# EAGLE library part SNESCART_CONN_SPARSE (library snes_div)
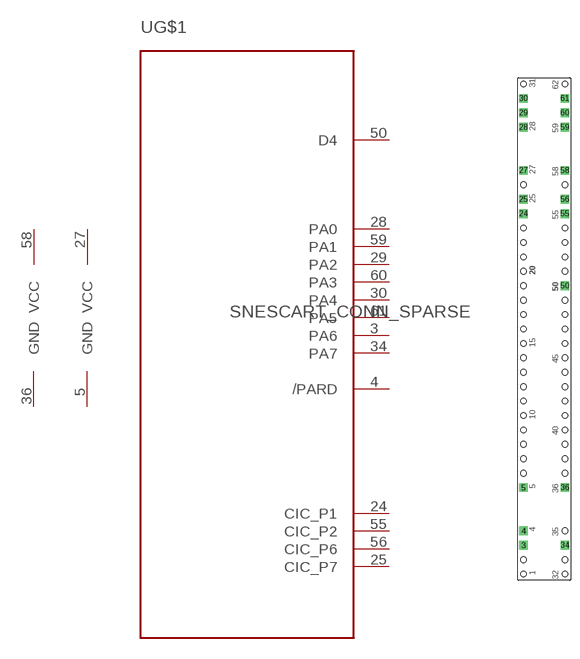
[diagram p10: symbol with the pads of SNESCART_CONN_SPARSE; footprint SNESCART_CONN_SPARSE]

Designator prefix -; gates G$1=SNESCART_CONN_SPARSE G$2=PWR G$3=PWR

## SNESCART_CONN_SPARSE  [SNESCART_CONN_SPARSE]
3  G$1:PA6
4  G$1:/PARD
5  G$2:GND
24  G$1:CIC_P1
25  G$1:CIC_P7
27  G$2:VCC
28  G$1:PA0
29  G$1:PA2
30  G$1:PA4
34  G$1:PA7
36  G$3:GND
50  G$1:D4
55  G$1:CIC_P2
56  G$1:CIC_P6
58  G$3:VCC
59  G$1:PA1
60  G$1:PA3
61  G$1:PA5

## Footprint SNESCART_CONN_SPARSE (pad centres in mm)
drill 1 square: 3 -3.6,-37.5; 4 -3.6,-35; 5 -3.6,-27.5; 24 -3.6,20; 25 -3.6,22.5; 27 -3.6,27.5; 28 -3.6,35; 29 -3.6,37.5; 30 -3.6,40; 34 3.6,-37.5; 36 3.6,-27.5; 50 3.6,7.5; 55 3.6,20; 56 3.6,22.5; 58 3.6,27.5; 59 3.6,35; 60 3.6,37.5; 61 3.6,40
hole 1 at -3.6,-42.5
hole 1 at -3.6,-40
hole 1 at -3.6,-25
hole 1 at -3.6,-22.5
hole 1 at -3.6,-20
hole 1 at -3.6,-17.5
hole 1 at -3.6,-15
hole 1 at -3.6,-12.5
hole 1 at -3.6,-10
hole 1 at -3.6,-7.5
hole 1 at -3.6,-5
hole 1 at -3.6,-2.5
hole 1 at -3.6,0
hole 1 at -3.6,2.5
hole 1 at -3.6,5
hole 1 at -3.6,7.5
hole 1 at -3.6,10
hole 1 at -3.6,12.5
hole 1 at -3.6,15
hole 1 at -3.6,17.5
hole 1 at -3.6,25
hole 1 at -3.6,42.5
hole 1 at 3.6,42.5
hole 1 at 3.6,25
hole 1 at 3.6,17.5
hole 1 at 3.6,15
hole 1 at 3.6,12.5
hole 1 at 3.6,10
hole 1 at 3.6,5
hole 1 at 3.6,2.5
hole 1 at 3.6,0
hole 1 at 3.6,-2.5
hole 1 at 3.6,-5
hole 1 at 3.6,-7.5
hole 1 at 3.6,-10
hole 1 at 3.6,-12.5
hole 1 at 3.6,-15
hole 1 at 3.6,-17.5
hole 1 at 3.6,-20
hole 1 at 3.6,-22.5
hole 1 at 3.6,-25
hole 1 at 3.6,-35
hole 1 at 3.6,-40
hole 1 at 3.6,-42.5